# Altium footprint library Connector Footprints.PcbLib: 66 footprints (part 1 of 5)
Each footprint in its own frame and in the unit in brackets; x right, y up, seen from the top. Pads: shape width x height; smd on the part's side, far side on the other; paste and mask are expansions set on the pad; w line width, h text height; cw(c..) or ccw(c..) is an arc to the next point about the centre after c.
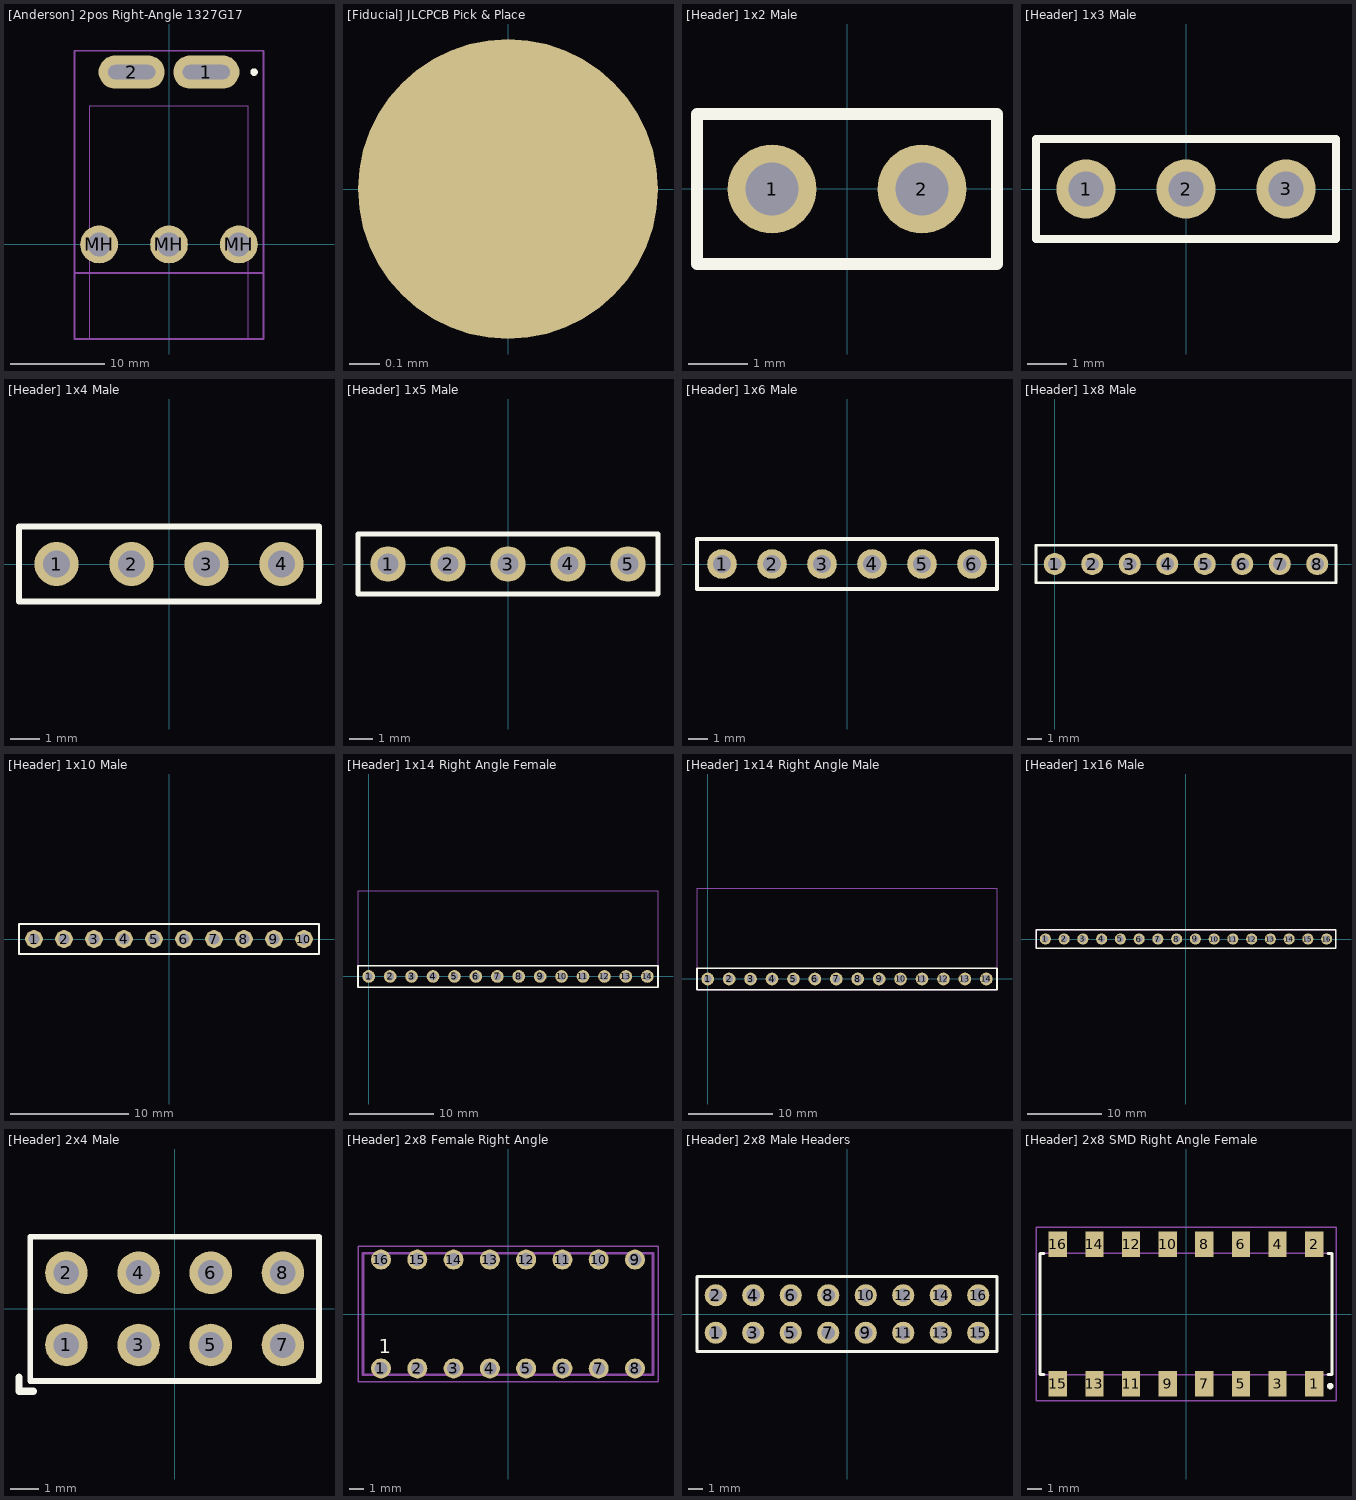
[diagram p0: the footprints below, top view; thin cyan lines are the x and y axes]

## [Anderson] 2pos Right-Angle 1327G17 [mm]
pads (5):
  oval 7x3.5 hole 1.5 slot 5 at 0 deg: 1(3.95,18.24) 2(-3.95,18.24)
  round 4 hole 2.5: MH(-7.39,0) MH(0,0) MH(7.39,0)
Top Overlay:
  circle w0.4: c9,18.24 r0.2
Physical Drawing:
  lines w0.127: -8.4,-9.9 8.4,-9.9 8.4,14.7 -8.4,14.7 -8.4,-9.9
Part Outline:
  lines w0.2: -10,-3 10,-3 ; -10,-10 -10,20.5 10,20.5 10,-10 -10,-10
3D body "step_temp.STEP": height 8.4, standoff -5.7, extent -8.4,-9.86 7.9,18.74

## [Fiducial] JLCPCB Pick & Place [mm]
pads (1):
  round 1 smd paste-2539.97 mask+1: ""(0,0)

## [Header] 1x2 Male [mm]
pads (2):
  round 1.5 hole 0.9: 1(-1.27,0) 2(1.27,0)
Top Overlay:
  lines w0.2: -2.54,-1.27 2.54,-1.27 2.54,1.27 -2.54,1.27 -2.54,-1.27
Bottom Overlay:
  lines w0.2: -2.54,-1.27 -2.54,1.27 2.54,1.27 2.54,-1.27 -2.54,-1.27
Part Outline:
  lines w0.1: -2.54,-1.27 -2.54,1.27 2.54,1.27 2.54,-1.27 -2.54,-1.27
3D body "Pin Header 1x2 TH Pitch 2.54mm.stp": height 9.5, standoff -3.2, extent -2.54,-1.27 2.54,1.27

## [Header] 1x3 Male [mm]
pads (3):
  round 1.5 hole 0.9: 1(-2.54,0) 2(0,0) 3(2.54,0)
Top Overlay:
  lines w0.2: -3.81,-1.27 3.81,-1.27 3.81,1.27 -3.81,1.27 -3.81,-1.27
Bottom Overlay:
  lines w0.2: -3.81,-1.27 -3.81,1.27 3.81,1.27 3.81,-1.27 -3.81,-1.27
Part Outline:
  lines w0.1: -3.81,-1.27 -3.81,1.27 3.81,1.27 3.81,-1.27 -3.81,-1.27
3D body "Pin Header 1x3 TH Pitch 2.54mm.stp": height 9.5, standoff -3.2, extent -3.81,-1.27 3.81,1.27

## [Header] 1x4 Male [mm] "2.54mm pitch"
pads (4):
  round 1.5 hole 0.9: 1(-3.81,0) 2(-1.27,0) 3(1.27,0) 4(3.81,0)
Top Overlay:
  lines w0.2: -5.08,-1.27 5.08,-1.27 5.08,1.27 -5.08,1.27 -5.08,-1.27
Bottom Overlay:
  lines w0.2: -5.08,-1.27 -5.08,1.27 5.08,1.27 5.08,-1.27 -5.08,-1.27
Part Outline:
  lines w0.1: -5.08,-1.27 -5.08,1.27 5.08,1.27 5.08,-1.27 -5.08,-1.27
3D body "Pin Header 1x4 TH Pitch 2.54mm.stp": height 9.5, standoff -3.2, extent -5.08,-1.27 5.08,1.27

## [Header] 1x5 Male [mm]
pads (5):
  round 1.5 hole 0.9: 1(-5.08,0) 2(-2.54,0) 3(0,0) 4(2.54,0) 5(5.08,0)
Top Overlay:
  lines w0.2: -6.35,-1.27 6.35,-1.27 6.35,1.27 -6.35,1.27 -6.35,-1.27
Bottom Overlay:
  lines w0.2: -6.35,-1.27 -6.35,1.27 6.35,1.27 6.35,-1.27 -6.35,-1.27
Part Outline:
  lines w0.1: -6.35,-1.27 -6.35,1.27 6.35,1.27 6.35,-1.27 -6.35,-1.27
3D body "Pin Header 1x5 TH Pitch 2.54mm.stp": height 9.5, standoff -3.2, extent -6.35,-1.27 6.35,1.27

## [Header] 1x6 Male [mm]
pads (6):
  round 1.5 hole 0.9: 1(-6.35,0) 2(-3.81,0) 3(-1.27,0) 4(1.27,0) 5(3.81,0) 6(6.35,0)
Top Overlay:
  lines w0.2: -7.62,-1.27 7.62,-1.27 7.62,1.27 -7.62,1.27 -7.62,-1.27
Bottom Overlay:
  lines w0.2: -7.62,-1.27 -7.62,1.27 7.62,1.27 7.62,-1.27 -7.62,-1.27
Part Outline:
  lines w0.1: -7.62,-1.27 -7.62,1.27 7.62,1.27 7.62,-1.27 -7.62,-1.27
3D body "Pin Header 1x6 TH Pitch 2.54mm.stp": height 9.5, standoff -3.2, extent -7.62,-1.27 7.62,1.27

## [Header] 1x8 Male [mm]
pads (8):
  round 1.5 hole 0.9: 1(0,0) 2(2.54,0) 3(5.08,0) 4(7.62,0) 5(10.16,0) 6(12.7,0) 7(15.24,0) 8(17.78,0)
Top Overlay:
  lines w0.2: -1.27,-1.27 19.05,-1.27 19.05,1.27 -1.27,1.27 -1.27,-1.27
Bottom Overlay:
  lines w0.2: -1.27,-1.27 -1.27,1.27 19.05,1.27 19.05,-1.27 -1.27,-1.27
Part Outline:
  lines w0.1: 19.05,-1.27 -1.27,-1.27 -1.27,1.27 19.05,1.27
3D body "Pin Header 1x8 TH Pitch 2.54mm.stp": height 9.5, standoff -3.2, extent -1.27,-1.27 19.05,1.27

## [Header] 1x10 Male [mm]
pads (10):
  round 1.5 hole 0.9: 1(-11.43,0) 2(-8.89,0) 3(-6.35,0) 4(-3.81,0) 5(-1.27,0) 6(1.27,0) 7(3.81,0) 8(6.35,0) 9(8.89,0) 10(11.43,0)
Top Overlay:
  lines w0.2: -12.7,-1.27 12.7,-1.27 12.7,1.27 -12.7,1.27 -12.7,-1.27
Bottom Overlay:
  lines w0.2: -12.7,-1.27 -12.7,1.27 12.7,1.27 12.7,-1.27 -12.7,-1.27
Part Outline:
  lines w0.1: -12.7,-1.27 -12.7,1.27 12.7,1.27 12.7,-1.27 -12.7,-1.27
3D body "Pin Header 1x10 TH Pitch 2.54mm.stp": height 9.5, standoff -3.2, extent -12.7,-1.27 12.7,1.27

## [Header] 1x14 Right Angle Female [mm]
pads (14):
  round 1.5 hole 0.9: 1(0,0) 2(2.54,0) 3(5.08,0) 4(7.62,0) 5(10.16,0) 6(12.7,0) 7(15.24,0) 8(17.78,0) 9(20.32,0) 10(22.86,0) 11(25.4,0) 12(27.94,0) 13(30.48,0) 14(33.02,0)
Top Overlay:
  lines w0.2: -1.27,-1.27 -1.27,1.27 34.29,1.27 34.29,-1.27 -1.27,-1.27
Bottom Overlay:
  lines w0.2: -1.27,-1.27 34.29,-1.27 34.29,1.27 -1.27,1.27 -1.27,-1.27
Part Outline:
  lines w0.1: -1.27,-1.27 34.29,-1.27 34.29,10.15 -1.27,10.15 -1.27,-1.27
3D body "[Header] 1x2 Right Angle Female.STEP": height 3, standoff -3.14, extent 29.19,-0.201 34.27,10.15
3D body "[Header] 1x2 Right Angle Female.STEP": height 3, standoff -3.14, extent 24.11,-0.201 29.19,10.15
3D body "[Header] 1x2 Right Angle Female.STEP": height 3, standoff -3.14, extent 19.03,-0.201 24.11,10.15
3D body "[Header] 1x2 Right Angle Female.STEP": height 3, standoff -3.14, extent 13.95,-0.201 19.03,10.15
3D body "[Header] 1x2 Right Angle Female.STEP": height 3, standoff -3.14, extent 8.87,-0.201 13.95,10.15
3D body "[Header] 1x2 Right Angle Female.STEP": height 3, standoff -3.14, extent 3.79,-0.201 8.87,10.15
3D body "[Header] 1x2 Right Angle Female.STEP": height 3, standoff -3.14, extent -1.29,-0.201 3.79,10.15

## [Header] 1x14 Right Angle Male [mm]
pads (14):
  round 1.5 hole 0.9: 1(0,0) 2(2.54,0) 3(5.08,0) 4(7.62,0) 5(10.16,0) 6(12.7,0) 7(15.24,0) 8(17.78,0) 9(20.32,0) 10(22.86,0) 11(25.4,0) 12(27.94,0) 13(30.48,0) 14(33.02,0)
Top Overlay:
  lines w0.2: -1.27,-1.27 34.29,-1.27 34.29,1.27 -1.27,1.27 -1.27,-1.27
Bottom Overlay:
  lines w0.2: -1.27,-1.27 -1.27,1.27 34.29,1.27 34.29,-1.27 -1.27,-1.27
Part Outline:
  lines w0.1: -1.27,10.75 -1.27,-1.27 34.29,-1.27 34.29,10.75 -1.254,10.75
3D body "[Header] 1x14 Right Angle Male.STP": height 3.09, standoff -3.2, extent -1.3,-0.316 34.265,10.796

## [Header] 1x16 Male [mm]
pads (16):
  round 1.5 hole 0.9: 1(-19.05,0) 2(-16.51,0) 3(-13.97,0) 4(-11.43,0) 5(-8.89,0) 6(-6.35,0) 7(-3.81,0) 8(-1.27,0) 9(1.27,0) 10(3.81,0) 11(6.35,0) 12(8.89,0) 13(11.43,0) 14(13.97,0) 15(16.51,0) 16(19.05,0)
Top Overlay:
  lines w0.2: -20.32,-1.27 -20.32,1.27 20.32,1.27 20.32,-1.27 -20.32,-1.27
Bottom Overlay:
  lines w0.2: -20.32,-1.27 20.32,-1.27 20.32,1.27 -20.32,1.27 -20.32,-1.27
Part Outline:
  lines w0.1: -20.32,-1.27 20.32,-1.27 20.32,1.27 -20.32,1.27 -20.32,-1.27
3D body "Pin Header 1x16 TH Pitch 2.54mm.stp": height 9.5, standoff -3.2, extent -20.32,-1.27 20.32,1.27

## [Header] 2x4 Male [mm]
pads (8):
  round 1.5 hole 0.9: 1(-3.81,-1.27) 2(-3.81,1.27) 3(-1.27,-1.27) 4(-1.27,1.27) 5(1.27,-1.27) 6(1.27,1.27) 7(3.81,-1.27) 8(3.81,1.27)
Top Overlay:
  lines w0.2: -5.08,-2.54 -5.08,2.54 5.08,2.54 5.08,-2.54 -5.08,-2.54
  lines w0.254: -5.48,-2.4 -5.48,-2.9 -4.98,-2.9
3D body "Pin Header 1x4 TH Pitch 2.54mm.stp": height 9.5, standoff -3.2, extent -5.08,0 5.08,2.54
3D body "Pin Header 1x4 TH Pitch 2.54mm.stp": height 9.5, standoff -3.2, extent -5.08,-2.54 5.08,0

## [Header] 2x8 Female Right Angle [mm] "90152-2116"
pads (16):
  round 1.4 hole 0.9: 1(-8.89,-3.81) 2(-6.35,-3.81) 3(-3.81,-3.81) 4(-1.27,-3.81) 5(1.27,-3.81) 6(3.81,-3.81) 7(6.35,-3.81) 8(8.89,-3.81) 9(8.89,3.81) 10(6.35,3.81) 11(3.81,3.81) 12(1.27,3.81) 13(-1.27,3.81) 14(-3.81,3.81) 15(-6.35,3.81) 16(-8.89,3.81)
Top Overlay:
  text "1" at -9.057,-2.75 h1
Physical Drawing:
  lines w0.2: -10.16,-4.25 -10.16,4.25 10.16,4.25 10.16,-4.25 -10.16,-4.25
Part Outline:
  lines w0.1: -10.5,-4.75 -10.5,4.75 10.5,4.75 10.5,-4.75 -10.5,-4.75
3D body "90152-2116.stp": height 5.94, standoff -2.95, extent -10.16,-4.25 10.16,4.25

## [Header] 2x8 Male Headers [mm]
pads (16):
  round 1.5 hole 0.9: 1(-8.89,-1.27) 2(-8.89,1.27) 3(-6.35,-1.27) 4(-6.35,1.27) 5(-3.81,-1.27) 6(-3.81,1.27) 7(-1.27,-1.27) 8(-1.27,1.27) 9(1.27,-1.27) 10(1.27,1.27) 11(3.81,-1.27) 12(3.81,1.27) 13(6.35,-1.27) 14(6.35,1.27) 15(8.89,-1.27) 16(8.89,1.27)
Top Overlay:
  lines w0.2: -10.16,-2.54 10.16,-2.54 10.16,2.54 -10.16,2.54 -10.16,-2.54
Bottom Overlay:
  lines w0.2: -10.16,-2.54 10.16,-2.54 10.16,2.54 -10.16,2.54 -10.16,-2.54
Part Outline:
  lines w0.1: 10.16,-2.54 -10.16,-2.54 -10.16,2.54 10.16,2.54
3D body "Pin Header 1x8 TH Pitch 2.54mm.stp": height 9.5, standoff -3.2, extent -10.16,0 10.16,2.54
3D body "Pin Header 1x8 TH Pitch 2.54mm.stp": height 9.5, standoff -3.2, extent -10.16,-2.54 10.16,0

## [Header] 2x8 SMD Right Angle Female [mm]
pads (16):
  rect 1.27x1.78 smd paste+0 mask+0.102: 1(8.89,-4.825) 2(8.89,4.825) 3(6.35,-4.825) 4(6.35,4.825) 5(3.81,-4.825) 6(3.81,4.825) 7(1.27,-4.825) 8(1.27,4.825) 9(-1.27,-4.825) 10(-1.27,4.825) 11(-3.81,-4.825) 12(-3.81,4.825) 13(-6.35,-4.825) 14(-6.35,4.825) 15(-8.89,-4.825) 16(-8.89,4.825)
Top Overlay:
  circle w0.25: c10,-5 r0.1
  lines w0.2: -9.845,-4.2 -10.12,-4.2 -10.12,4.2 -9.845,4.2 ; 9.845,-4.2 10.12,-4.2 10.12,4.2 9.845,4.2
Physical Drawing:
  lines w0.1: -10.12,-4.2 -10.12,4.2 10.12,4.2 10.12,-4.2 -10.12,-4.2
Part Outline:
  lines w0.1: -10.4,-6 -10.4,6 10.4,6 10.4,-6 -10.4,-6
3D body "[Header] 2x8 SMD Right Angle Female.STEP": height 6.03, standoff 0, extent -10.12,-5.45 10.12,5.45